# EAGLE library part 6861XX183822_686104183822 (library Wurth_Connectors_WR-FPC)
WR-FPC 1.00 mm SMT ZIF Vertical Type A KIND PROPERTIES Pitch 1 mm MATERIAL PROPERTIES Insulator Material PA6T Contact Material Phosphor Bronze Contact Plating 120 (µ") Tin over 30 (µ") Nickel Solder Tabs Brass <https://www.we-online.com/catalog/media/o83988v209%20Family_WR-FPC_6861xx183822.jpg> Details see: https://www.we-online.com/catalog/en/FPC_1_00_SMT_ZIF_VERTICAL_TYPE_A_6861XX183822/ Updated by Ella Wu, 2020-08-25 2020 (C) Würth Elektronik
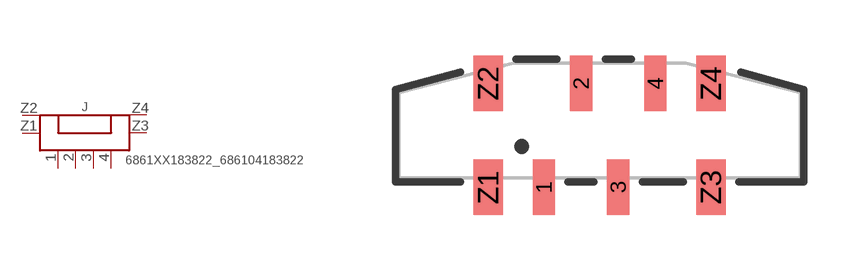
[diagram p190: symbol with the pads of 686104183822; footprint 686104183822]

Designator prefix J

## 6861XX183822_686104183822 (CONTACT-RESISTANCE: 30mOhm; DATASHEET-URL: https://www.we-online.com/catalog/datasheet/686104183822.pdf; IR: 1A; L: 10.8mm; MATE-WITH: WR-FFC 1.00 mm Flat Flexible Cable Type 1 (Contacts on same side)/ Type 2 (Contacts opposite); PACKAGING: Tape and Reel; PART-NUMBER: 686104183822; PINS: 4; PITCH: 1mm; TYPE: Vertical; VALUE: 686104183822; WORKING-VOLTAGE: 125V(AC))  [686104183822]
1  1  pas
2  2  pas
3  3  pas
4  4  pas
Z1  Z1  pas
Z2  Z2  pas
Z3  Z3  pas
Z4  Z4  pas

## Footprint 686104183822 (pad centres in mm)
WR-FPC 1.00 mm SMT ZIF Vertical Type A, 4 Pins
smd 0.6 x 1.5: 1 -1.5,-1.8; 2 -0.5,1; 3 0.5,-1.8; 4 1.5,1
smd 0.8 x 1.5: Z1 -3,-1.8; Z2 -3,1; Z3 3,-1.8; Z4 3,1